# EAGLE library part ISP-6 (library ISP-6)
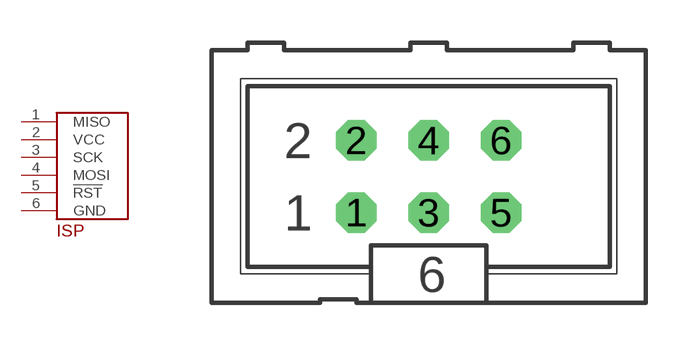
[diagram p0: symbol with the pads of ISP-6; footprint ISP-6]

Designator prefix -

## ISP-6  [ISP-6]
1  MISO
2  VCC
3  SCK
4  MOSI
5  !RST
6  GND

## Footprint ISP-6 (pad centres in mm)
drill 0.914 octagon: 1 -2.54,-1.27; 2 -2.54,1.27; 3 0,-1.27; 4 0,1.27; 5 2.54,-1.27; 6 2.54,1.27